# Altium footprint library SC0915.PcbLib: 1 footprints
Each footprint in its own frame and in the unit in brackets; x right, y up, seen from the top. Pads: shape width x height; smd on the part's side, far side on the other; paste and mask are expansions set on the pad; w line width, h text height; cw(c..) or ccw(c..) is an arc to the next point about the centre after c.
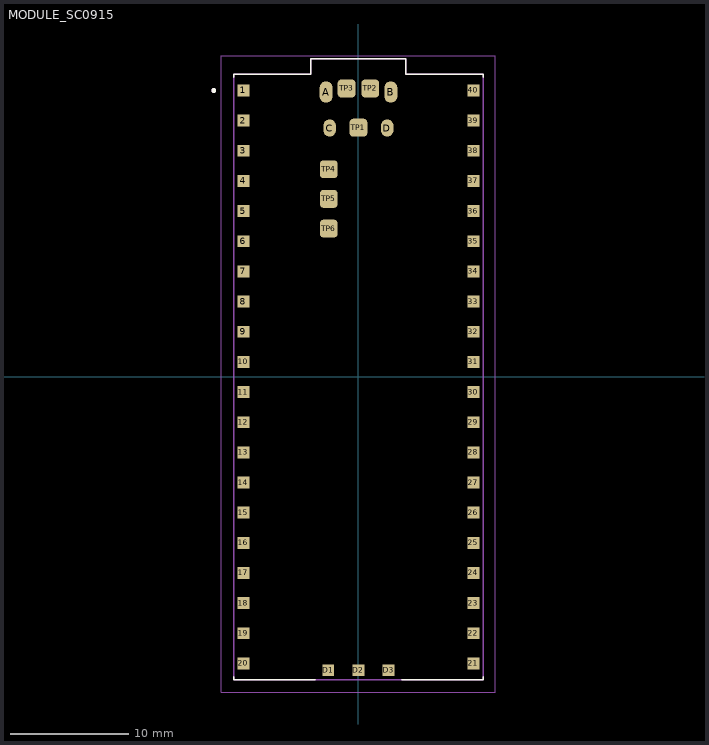
[diagram p0: the footprint, top view; thin cyan lines are the x and y axes]

## MODULE_SC0915 [mm]
pads (53):
  rect 1x1 smd paste-1 mask+0: 1(-9.69,24.13) 2(-9.69,21.59) 3(-9.69,19.05) 4(-9.69,16.51) 5(-9.69,13.97) 6(-9.69,11.43) 7(-9.69,8.89) 8(-9.69,6.35) 9(-9.69,3.81) 10(-9.69,1.27) 11(-9.69,-1.27) 12(-9.69,-3.81) 13(-9.69,-6.35) 14(-9.69,-8.89) 15(-9.69,-11.43) 16(-9.69,-13.97) 17(-9.69,-16.51) 18(-9.69,-19.05) 19(-9.69,-21.59) 20(-9.69,-24.13) 21(9.69,-24.13) 22(9.69,-21.59) 23(9.69,-19.05) 24(9.69,-16.51) 25(9.69,-13.97) 26(9.69,-11.43) 27(9.69,-8.89) 28(9.69,-6.35) 29(9.69,-3.81) 30(9.69,-1.27) 31(9.69,1.27) 32(9.69,3.81) 33(9.69,6.35) 34(9.69,8.89) 35(9.69,11.43) 36(9.69,13.97) 37(9.69,16.51) 38(9.69,19.05) 39(9.69,21.59) 40(9.69,24.13) D1(-2.54,-24.7) D2(0,-24.7) D3(2.54,-24.7)
  oval 1.1x1.8 smd: A(-2.725,24) B(2.725,24)
  oval 1.05x1.45 smd: C(-2.425,20.97) D(2.425,20.97)
  rrect40% 1.5x1.5 smd: TP1(0,21) TP2(1,24.3) TP3(-1,24.3) TP4(-2.5,17.5) TP5(-2.5,15) TP6(-2.5,12.5)
Top Overlay:
  circle w0.2: c-12.19,24.13 r0.1
  lines w0.127: -10.5,-25.25 -10.5,-25.5 -3.66,-25.5 ; -10.5,25.25 -10.5,25.5 -4,25.5 -4,26.8 4,26.8 4,25.5 10.5,25.5 10.5,25.25 ; 3.66,-25.5 10.5,-25.5 10.5,-25.25
Mechanical 13:
  circle w0.2: c-12.19,24.13 r0.1
  lines w0.127: -10.5,-25.5 -10.5,25.5 -4,25.5 -4,26.8 4,26.8 4,25.5 10.5,25.5 10.5,-25.5 -10.5,-25.5
Mechanical 15:
  lines w0.05: -11.54,-26.55 -11.54,27.05 11.54,27.05 11.54,-26.55 -11.54,-26.55
3D body "step_temp.STEP": height 3.73, standoff 0, extent -10.5,-25.5 10.5,26.8